# EAGLE library part ODROID-C2-GPIO40 (library (custom)-connectors-and-modules)
Multi connection point. Often used as Generic Header-pin footprint for 0.1 inch spaced/style header connections On any of the 0.1 inch spaced packages, you can populate with these: Break Away Headers - Straight <https://www.sparkfun.com/products/116> (PRT-00116) Break Away Male Headers - Right Angle <https://www.sparkfun.com/products/553> (PRT-00553) Female Headers <https://www.sparkfun.com/products/115> (PRT-00115) Break Away Headers - Machine Pin <https://www.sparkfun.com/products/117> (PRT-00117) Break Away Female Headers - Swiss Machine Pin <https://www.sparkfun.com/products/743> (PRT-00743)
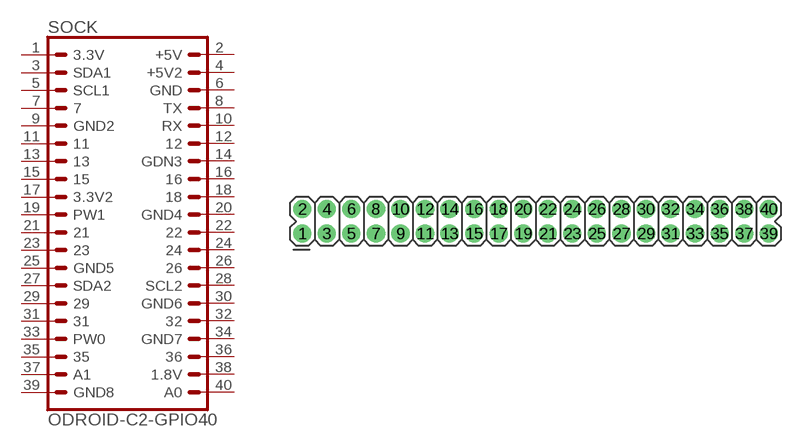
[diagram p8: symbol with the pads of ODROID-C2-GPIO-2X20; footprint ODROID-C2-GPIO-2X20]

Designator prefix SOCK

## ODROID-C2-GPIO40 (MPN: M20-7832046)  [ODROID-C2-GPIO-2X20]
1  3.3V  pas
2  +5V  pas
3  SDA1  pas
4  +5V2  pas
5  SCL1  pas
6  GND  pas
7  7  pas
8  TX  pas
9  GND2  pas
10  RX  pas
11  11  pas
12  12  pas
13  13  pas
14  GDN3  pas
15  15  pas
16  16  pas
17  3.3V2  pas
18  18  pas
19  PW1  pas
20  GND4  pas
21  21  pas
22  22  pas
23  23  pas
24  24  pas
25  GND5  pas
26  26  pas
27  SDA2  pas
28  SCL2  pas
29  29  pas
30  GND6  pas
31  31  pas
32  32  pas
33  PW0  pas
34  GND7  pas
35  35  pas
36  36  pas
37  A1  pas
38  1.8V  pas
39  GND8  pas
40  A0  pas

## Footprint ODROID-C2-GPIO-2X20 (pad centres in mm)
Plated Through Hole - 2x20 Specifications: Pin count:40 Pin pitch:0.1" Example device(s): CONN_20x2
drill 1.016 pad 1.88: 1 0,0; 2 0,2.54; 3 2.54,0; 4 2.54,2.54; 5 5.08,0; 6 5.08,2.54; 7 7.62,0; 8 7.62,2.54; 9 10.16,0; 10 10.16,2.54; 11 12.7,0; 12 12.7,2.54; 13 15.24,0; 14 15.24,2.54; 15 17.78,0; 16 17.78,2.54; 17 20.32,0; 18 20.32,2.54; 19 22.86,0; 20 22.86,2.54; 21 25.4,0; 22 25.4,2.54; 23 27.94,0; 24 27.94,2.54; 25 30.48,0; 26 30.48,2.54; 27 33.02,0; 28 33.02,2.54; 29 35.56,0; 30 35.56,2.54; 31 38.1,0; 32 38.1,2.54; 33 40.64,0; 34 40.64,2.54; 35 43.18,0; 36 43.18,2.54; 37 45.72,0; 38 45.72,2.54; 39 48.26,0; 40 48.26,2.54